# Altium integrated library LTST-C191TBKT-5A.IntLib: 1 symbol
Pins are listed as number, name and electrical type; pins without a type are passive.

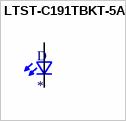
[diagram p0: symbol LTST-C191TBKT-5A]

## LTST-C191TBKT-5A
designator D
Blue 473nm LED Indication - Discrete 2.8V 0603 _1608 Metric_; MF: Lite-On Inc.; MP: LTST-C191TBKT-5A; Package: 0603 Lite-On; Price: None; Availability: Unavailable; SnapEDA_Link: https://www.snapeda.com/parts/LTST-C191TBKT-5A/Lite-On%20Inc./view-part/266129/?ref=snap; Value: *
footprint 0603
pins: 1 K2, 2 A2